# Altium integrated library Linear Technology Charge_Pump.IntLib: 599 symbols (part 29 of 29)
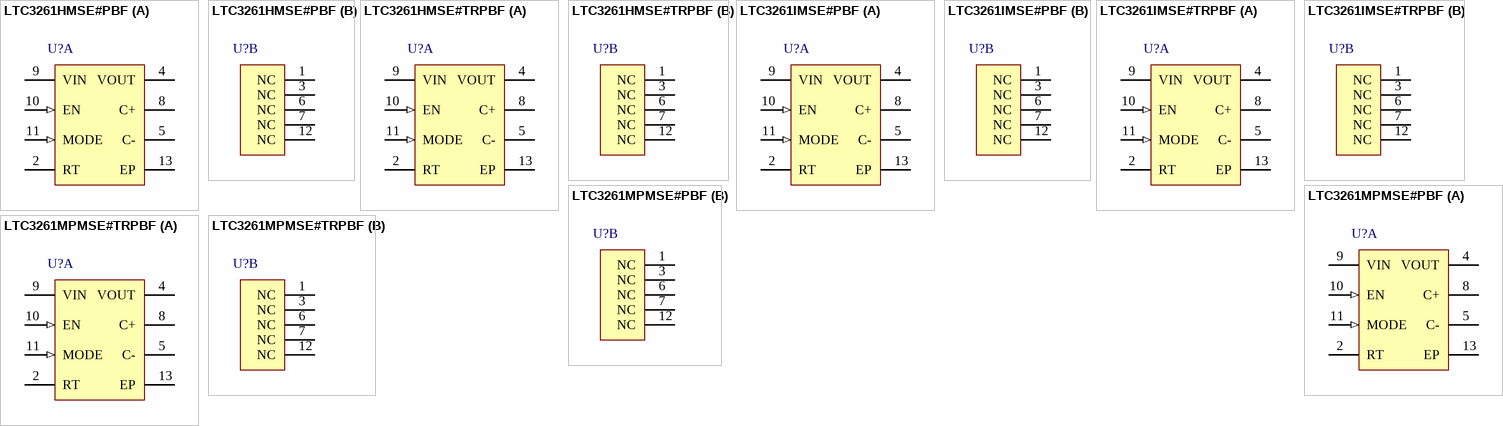
[diagram p44: symbols LTC3261HMSE#PBF to LTC3261MPMSE#TRPBF]

## LTC3261IMSE#TRPBF
designator U?
High Voltage, Low Quiescent Current Inverting Charge Pump, 4.5 to 32 V Vin, 12-pin SOP (MSE-12-EDP), -40 to 125 degC, Pb-Free, Tape and Reel; Manufacturer: Linear Technology; PartNumber: LTC3261IMSE#TRPBF; Frequency(kHz): 500; Ishutdown(uA): 2; Isupply(mA): 0.06; Max Iout(mA): 100; Vin Max(V): 32; Vin Min(V): 4.5; Voutput: -Vin; DatasheetVersion: Rev. B; PackageVersion: Rev. G, 05/2013; PackageReference: MSE-12-EDP; PackageDescription: 12-Pin Plastic MSOP, Exposed Die Pad, Body 4.039 x 3 mm, Pitch 0.65 mm; Supplier 1: Digi-Key; Supplier Part Number 1: LTC3261IMSE#TRPBF-ND; Supplier 2: Newark; Supplier Part Number 2: 94T1254; Packing: Tape and Reel; RoHS: TRUE; Mounting Technology: Surface Mount; ComponentLink1Description: Manufacturer URL; ComponentLink1URL: http://www.linear.com/; ComponentLink2Description: Datasheet; ComponentLink2URL: http://cds.linear.com/docs/en/datasheet/3261fb.pdf; ComponentLink3Description: Package Specification; ComponentLink3URL: http://cds.linear.com/docs/en/packaging/05081666_G_MSE12.pdf
footprint LT-MSE-12-EDP_N (SOP, 12-Leads, Body 4.1x3.1mm, Pitch 0.65mm, Thermal Pad 2.95x1.76mm, IPC Medium Density)
footprint LT-MSE-12-EDP_L (SOP, 12-Leads, Body 4.1x3.1mm, Pitch 0.65mm, Thermal Pad 2.95x1.76mm, IPC High Density)
footprint LT-MSE-12-EDP_M (SOP, 12-Leads, Body 4.1x3.1mm, Pitch 0.65mm, Thermal Pad 2.95x1.76mm, IPC Low Density)
part A pins: 2 RT "Input Connection for Programming the Switching Frequency. The RT pin servos to a fixed 1.2V when the EN pin is driven to a logic “high? A resistor from RT to GND sets the charge pump switching frequency. If the RT (See Datasheet)", 4 VOUT (power) "Charge Pump Output Voltage. In constant frequency mode (MODE = low) this pin is driven to -VIN. In Burst Mode operation, (MODE = high) this pin voltage is regulated to -0.94 ?VIN using an internal burst comparator wit(See Datasheet)", 5 C- "Flying Capacitor Negative Connection.", 8 C+ "Flying Capacitor Positive Connection.", 9 VIN (power) "Input Voltage for the Charge Pump. VIN should be bypassed with a low impedance ceramic capacitor.", 10 EN (in) "Logic Input. A logic “high?on the EN pin enables the inverting charge pump.", 11 MODE (in) "Logic Input. The MODE pin determines the charge pump operating mode. A logic “high?on the MODE pin forces the charge pump into Burst Mode operation regulating VOUT to approximately -0.94 ?VIN with hysteretic con(See Datasheet)", 13 EP (power) "Ground. The exposed package pad is ground and must be soldered to the PC board ground plane for proper functionality and for rated thermal performance."
part B pins: 1 NC "No Connect Pins. These pins are not connected to the LTC3261 die. These pins should be left floating or connected to ground. Pins 6 and 7 can also be shorted to adjacent pins.", 3 NC "No Connect Pins. These pins are not connected to the LTC3261 die. These pins should be left floating or connected to ground. Pins 6 and 7 can also be shorted to adjacent pins.", 6 NC "No Connect Pins. These pins are not connected to the LTC3261 die. These pins should be left floating or connected to ground. Pins 6 and 7 can also be shorted to adjacent pins.", 7 NC "No Connect Pins. These pins are not connected to the LTC3261 die. These pins should be left floating or connected to ground. Pins 6 and 7 can also be shorted to adjacent pins.", 12 NC "No Connect Pins. These pins are not connected to the LTC3261 die. These pins should be left floating or connected to ground. Pins 6 and 7 can also be shorted to adjacent pins."

## LTC3261MPMSE#PBF
designator U?
High Voltage, Low Quiescent Current Inverting Charge Pump, 4.5 to 32 V Vin, 12-pin SOP (MSE-12-EDP), -50 to 150 degC, Pb-Free; Manufacturer: Linear Technology; PartNumber: LTC3261MPMSE#PBF; Frequency(kHz): 500; Ishutdown(uA): 2; Isupply(mA): 0.06; Max Iout(mA): 100; Vin Max(V): 32; Vin Min(V): 4.5; Voutput: -Vin; DatasheetVersion: Rev. B; PackageVersion: Rev. G, 05/2013; PackageReference: MSE-12-EDP; PackageDescription: 12-Pin Plastic MSOP, Exposed Die Pad, Body 4.039 x 3 mm, Pitch 0.65 mm; Supplier 1: Digi-Key; Supplier Part Number 1: LTC3261MPMSE#PBF-ND; Supplier 2: Newark; Supplier Part Number 2: 45W8475; RoHS: TRUE; Mounting Technology: Surface Mount; ComponentLink1Description: Manufacturer URL; ComponentLink1URL: http://www.linear.com/; ComponentLink2Description: Datasheet; ComponentLink2URL: http://cds.linear.com/docs/en/datasheet/3261fb.pdf; ComponentLink3Description: Package Specification; ComponentLink3URL: http://cds.linear.com/docs/en/packaging/05081666_G_MSE12.pdf
footprint LT-MSE-12-EDP_N (SOP, 12-Leads, Body 4.1x3.1mm, Pitch 0.65mm, Thermal Pad 2.95x1.76mm, IPC Medium Density)
footprint LT-MSE-12-EDP_L (SOP, 12-Leads, Body 4.1x3.1mm, Pitch 0.65mm, Thermal Pad 2.95x1.76mm, IPC High Density)
footprint LT-MSE-12-EDP_M (SOP, 12-Leads, Body 4.1x3.1mm, Pitch 0.65mm, Thermal Pad 2.95x1.76mm, IPC Low Density)
part A pins: 2 RT "Input Connection for Programming the Switching Frequency. The RT pin servos to a fixed 1.2V when the EN pin is driven to a logic “high? A resistor from RT to GND sets the charge pump switching frequency. If the RT (See Datasheet)", 4 VOUT (power) "Charge Pump Output Voltage. In constant frequency mode (MODE = low) this pin is driven to -VIN. In Burst Mode operation, (MODE = high) this pin voltage is regulated to -0.94 ?VIN using an internal burst comparator wit(See Datasheet)", 5 C- "Flying Capacitor Negative Connection.", 8 C+ "Flying Capacitor Positive Connection.", 9 VIN (power) "Input Voltage for the Charge Pump. VIN should be bypassed with a low impedance ceramic capacitor.", 10 EN (in) "Logic Input. A logic “high?on the EN pin enables the inverting charge pump.", 11 MODE (in) "Logic Input. The MODE pin determines the charge pump operating mode. A logic “high?on the MODE pin forces the charge pump into Burst Mode operation regulating VOUT to approximately -0.94 ?VIN with hysteretic con(See Datasheet)", 13 EP (power) "Ground. The exposed package pad is ground and must be soldered to the PC board ground plane for proper functionality and for rated thermal performance."
part B pins: 1 NC "No Connect Pins. These pins are not connected to the LTC3261 die. These pins should be left floating or connected to ground. Pins 6 and 7 can also be shorted to adjacent pins.", 3 NC "No Connect Pins. These pins are not connected to the LTC3261 die. These pins should be left floating or connected to ground. Pins 6 and 7 can also be shorted to adjacent pins.", 6 NC "No Connect Pins. These pins are not connected to the LTC3261 die. These pins should be left floating or connected to ground. Pins 6 and 7 can also be shorted to adjacent pins.", 7 NC "No Connect Pins. These pins are not connected to the LTC3261 die. These pins should be left floating or connected to ground. Pins 6 and 7 can also be shorted to adjacent pins.", 12 NC "No Connect Pins. These pins are not connected to the LTC3261 die. These pins should be left floating or connected to ground. Pins 6 and 7 can also be shorted to adjacent pins."

## LTC3261MPMSE#TRPBF
designator U?
High Voltage, Low Quiescent Current Inverting Charge Pump, 4.5 to 32 V Vin, 12-pin SOP (MSE-12-EDP), -50 to 150 degC, Pb-Free, Tape and Reel; Manufacturer: Linear Technology; PartNumber: LTC3261MPMSE#TRPBF; Frequency(kHz): 500; Ishutdown(uA): 2; Isupply(mA): 0.06; Max Iout(mA): 100; Vin Max(V): 32; Vin Min(V): 4.5; Voutput: -Vin; DatasheetVersion: Rev. B; PackageVersion: Rev. G, 05/2013; PackageReference: MSE-12-EDP; PackageDescription: 12-Pin Plastic MSOP, Exposed Die Pad, Body 4.039 x 3 mm, Pitch 0.65 mm; Supplier 1: Digi-Key; Supplier Part Number 1: LTC3261MPMSE#TRPBF-ND; Supplier 2: Newark; Supplier Part Number 2: 45W8476; Packing: Tape and Reel; RoHS: TRUE; Mounting Technology: Surface Mount; ComponentLink1Description: Manufacturer URL; ComponentLink1URL: http://www.linear.com/; ComponentLink2Description: Datasheet; ComponentLink2URL: http://cds.linear.com/docs/en/datasheet/3261fb.pdf; ComponentLink3Description: Package Specification; ComponentLink3URL: http://cds.linear.com/docs/en/packaging/05081666_G_MSE12.pdf
footprint LT-MSE-12-EDP_N (SOP, 12-Leads, Body 4.1x3.1mm, Pitch 0.65mm, Thermal Pad 2.95x1.76mm, IPC Medium Density)
footprint LT-MSE-12-EDP_L (SOP, 12-Leads, Body 4.1x3.1mm, Pitch 0.65mm, Thermal Pad 2.95x1.76mm, IPC High Density)
footprint LT-MSE-12-EDP_M (SOP, 12-Leads, Body 4.1x3.1mm, Pitch 0.65mm, Thermal Pad 2.95x1.76mm, IPC Low Density)
part A pins: 2 RT "Input Connection for Programming the Switching Frequency. The RT pin servos to a fixed 1.2V when the EN pin is driven to a logic “high? A resistor from RT to GND sets the charge pump switching frequency. If the RT (See Datasheet)", 4 VOUT (power) "Charge Pump Output Voltage. In constant frequency mode (MODE = low) this pin is driven to -VIN. In Burst Mode operation, (MODE = high) this pin voltage is regulated to -0.94 ?VIN using an internal burst comparator wit(See Datasheet)", 5 C- "Flying Capacitor Negative Connection.", 8 C+ "Flying Capacitor Positive Connection.", 9 VIN (power) "Input Voltage for the Charge Pump. VIN should be bypassed with a low impedance ceramic capacitor.", 10 EN (in) "Logic Input. A logic “high?on the EN pin enables the inverting charge pump.", 11 MODE (in) "Logic Input. The MODE pin determines the charge pump operating mode. A logic “high?on the MODE pin forces the charge pump into Burst Mode operation regulating VOUT to approximately -0.94 ?VIN with hysteretic con(See Datasheet)", 13 EP (power) "Ground. The exposed package pad is ground and must be soldered to the PC board ground plane for proper functionality and for rated thermal performance."
part B pins: 1 NC "No Connect Pins. These pins are not connected to the LTC3261 die. These pins should be left floating or connected to ground. Pins 6 and 7 can also be shorted to adjacent pins.", 3 NC "No Connect Pins. These pins are not connected to the LTC3261 die. These pins should be left floating or connected to ground. Pins 6 and 7 can also be shorted to adjacent pins.", 6 NC "No Connect Pins. These pins are not connected to the LTC3261 die. These pins should be left floating or connected to ground. Pins 6 and 7 can also be shorted to adjacent pins.", 7 NC "No Connect Pins. These pins are not connected to the LTC3261 die. These pins should be left floating or connected to ground. Pins 6 and 7 can also be shorted to adjacent pins.", 12 NC "No Connect Pins. These pins are not connected to the LTC3261 die. These pins should be left floating or connected to ground. Pins 6 and 7 can also be shorted to adjacent pins."